# Altium footprint library pedals-enclosures.PCBLIB: 23 footprints (part 1 of 2)
Each footprint in its own frame and in the unit in brackets; x right, y up, seen from the top. Pads: shape width x height; smd on the part's side, far side on the other; paste and mask are expansions set on the pad; w line width, h text height; cw(c..) or ccw(c..) is an arc to the next point about the centre after c.
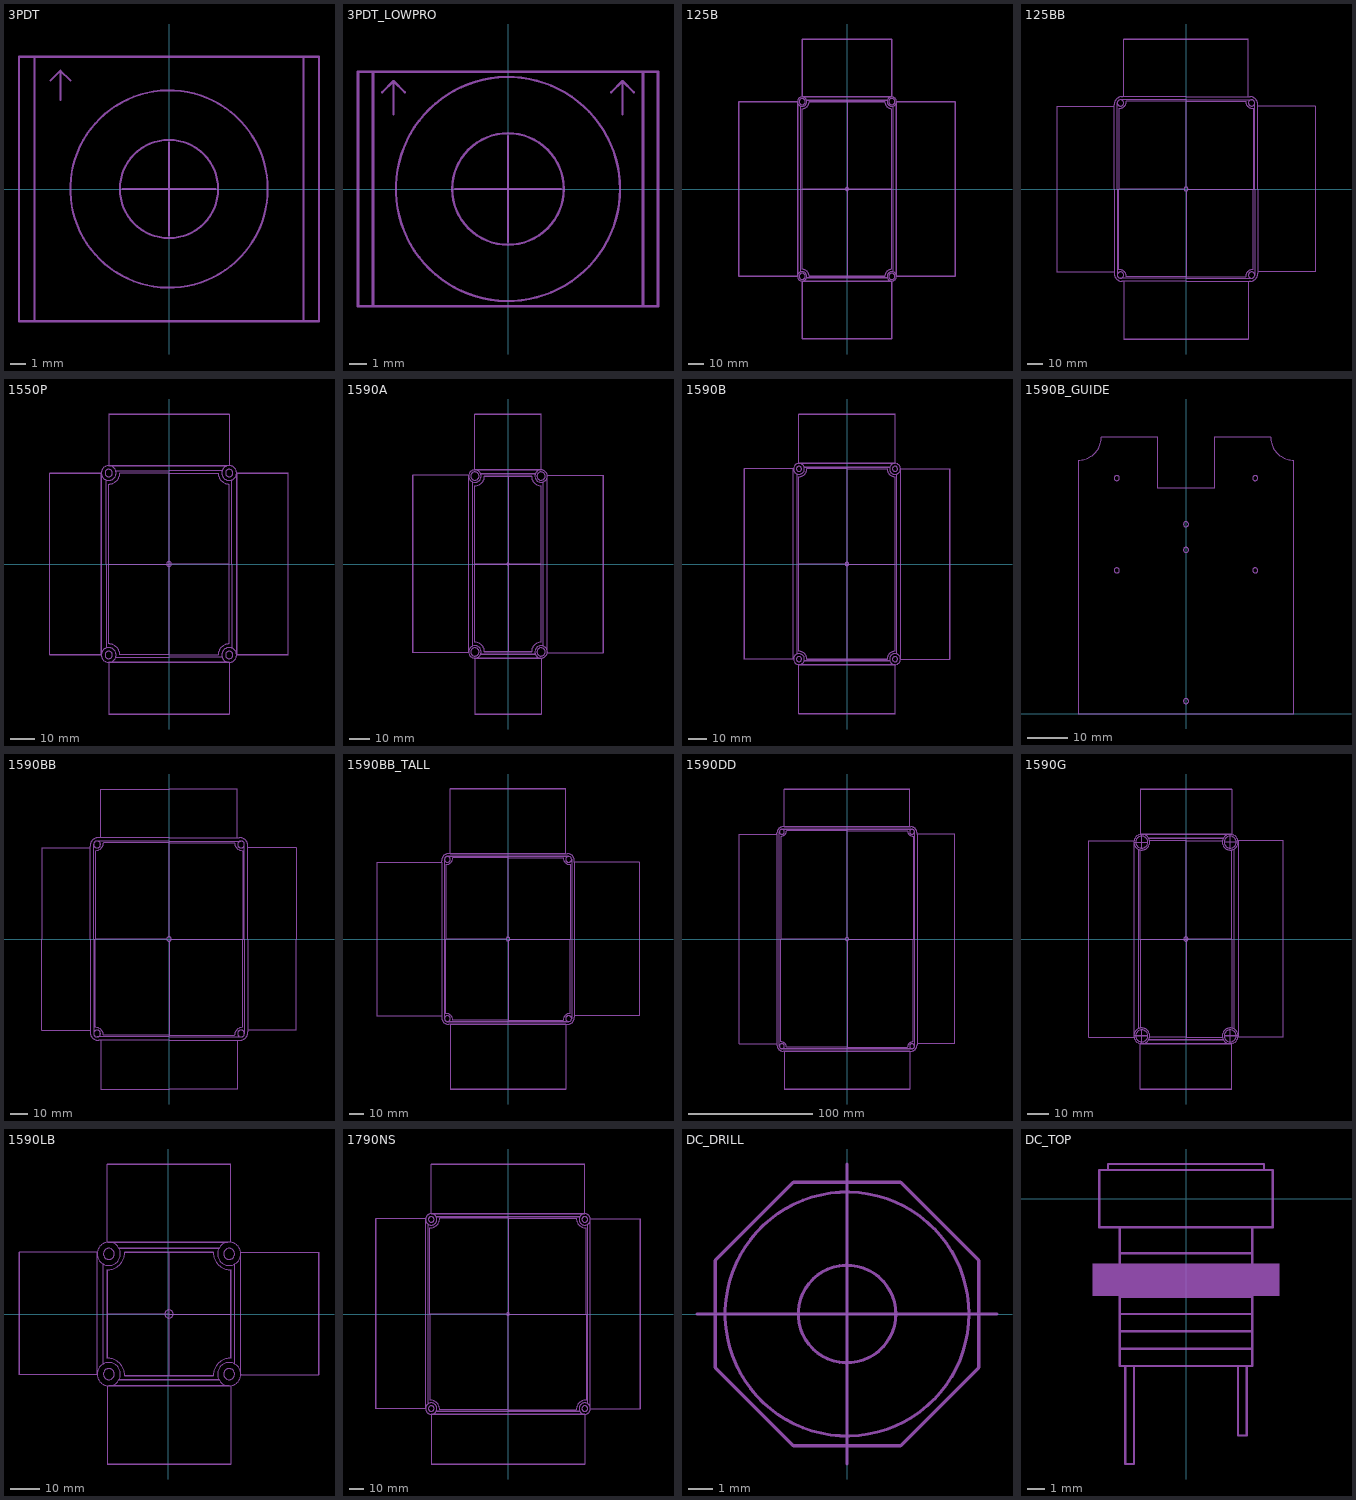
[diagram p0: the footprints below, top view; thin cyan lines are the x and y axes]

## 3PDT [mm]
Mechanical 2:
  circle w0.127: c0,0 r3.162
  circle w0.127: c0,0 r6.35
  lines w0.127: -7.62,6.985 -6.985,7.62 ; -6.985,5.715 -6.985,7.62 ; -6.35,6.985 -6.985,7.62 ; -3,0 3,0 ; 0,-3 0,3
  lines w0.152: -8.65,-8.5 8.65,-8.5 ; -8.65,-8.5 -9.65,-8.5 -9.65,8.5 -8.65,8.5 ; -8.65,-8.5 -8.65,8.5 ; -8.65,8.5 8.65,8.5 ; 8.65,-8.5 9.65,-8.5 9.65,8.5 8.65,8.5 ; 8.65,-8.5 8.65,8.5
Mechanical 3:
  circle w0.127: c0,0 r3.162
  circle w0.127: c0,0 r6.35
  lines w0.127: -7.62,6.985 -6.985,7.62 ; -6.985,5.715 -6.985,7.62 ; -6.35,6.985 -6.985,7.62 ; -3,0 3,0 ; 0,-3 0,3
  lines w0.152: -8.65,-8.5 -9.65,-8.5 -9.65,8.5 -8.65,8.5 ; -8.65,-8.5 8.65,-8.5 ; -8.65,-8.5 -8.65,8.5 ; -8.65,8.5 8.65,8.5 ; 8.65,-8.5 9.65,-8.5 9.65,8.5 8.65,8.5 ; 8.65,-8.5 8.65,8.5

## 3PDT_LOWPRO [mm]
Mechanical 2:
  circle w0.127: c0,0 r3.162
  circle w0.127: c0,0 r6.35
  lines w0.127: -7.12,5.485 -6.485,6.12 ; -6.485,4.215 -6.485,6.12 ; -5.85,5.485 -6.485,6.12 ; -3,0 3,0 ; 0,-3 0,3
  lines w0.152: -7.65,-6.65 7.65,-6.65 ; -7.65,-6.65 -8.5,-6.65 -8.5,6.65 -7.65,6.65 ; -7.65,-6.65 -7.65,6.65 ; -7.65,6.65 7.65,6.65 ; 7.65,-6.65 8.5,-6.65 8.5,6.65 7.65,6.65 ; 7.65,-6.65 7.65,6.65
Mechanical 3:
  circle w0.127: c0,0 r3.162
  circle w0.127: c0,0 r6.35
  lines w0.127: -3,0 3,0 ; 0,-3 0,3 ; 5.85,5.485 6.485,6.12 ; 6.485,4.215 6.485,6.12 ; 7.12,5.485 6.485,6.12
  lines w0.152: -7.65,-6.65 -8.5,-6.65 -8.5,6.65 -7.65,6.65 ; -7.65,-6.65 7.65,-6.65 ; -7.65,-6.65 -7.65,6.65 ; -7.65,6.65 7.65,6.65 ; 7.65,-6.65 8.5,-6.65 8.5,6.65 7.65,6.65 ; 7.65,-6.65 7.65,6.65

## 125B [mm]
Mechanical 2:
  circle w0.127: c-29,-56.5 r3
  circle w0.127: c-29,-56.5 r2
  circle w0.127: c29,-56.5 r3
  circle w0.127: c29,-56.5 r2
  circle w0.127: c29,56.5 r3
  circle w0.127: c29,56.5 r2
  circle w0.127: c-29,56.5 r2
  circle w0.127: c-29,56.5 r3
  circle w0.127: c0,0 r1
  lines w0.127: -30,-53.5 -30,0 -30,53.5 ; -26,-57.5 0,-57.5 26,-57.5 ; -26,57.5 0,57.5 26,57.5 ; 30,-53.5 30,0 30,53.5 ; -29,-97 -29,-59.5 ; -29,-97 -29,-59.5 ; -29,-97 29,-97 29,-59.5 -29,-59.5 ; -29,0 -29,52 ccw(c-29,56.5) -24.5,56.5 0,56.5 ; -29,0 0,0 ; -29,0 -29,-52 cw(c-29,-56.5) -24.5,-56.5 0,-56.5 ; 0,-56.5 0,0 ; 0,-56.5 24.5,-56.5 cw(c29,-56.5) 29,-52 29,0 ; 0,0 0,56.5 ; 0,0 29,0 ; 0,56.5 24.5,56.5 ccw(c29,56.5) 29,52 29,0 ; 29,59.5 -29,59.5 -29,97 29,97 ; 29,59.5 29,97 ; 29,59.5 29,97 ; 32,56.5 32,-56.5 70,-56.5 70,56.5 32,56.5 ; 32,56.5 32,53.365 32,56.5 ; -70,-56.5 -70,56.5 -32,56.5 -32,-56.5 -70,-56.5
Mechanical 3:
  circle w0.127: c29,-56.5 r3
  circle w0.127: c29,-56.5 r2
  circle w0.127: c-29,-56.5 r3
  circle w0.127: c-29,-56.5 r2
  circle w0.127: c-29,56.5 r3
  circle w0.127: c-29,56.5 r2
  circle w0.127: c29,56.5 r2
  circle w0.127: c29,56.5 r3
  circle w0.127: c0,0 r1
  lines w0.127: -30,-53.5 -30,0 -30,53.5 ; -26,-57.5 0,-57.5 26,-57.5 ; -26,57.5 0,57.5 26,57.5 ; 30,-53.5 30,0 30,53.5 ; -32,56.5 -32,-56.5 -70,-56.5 -70,56.5 -32,56.5 ; -32,56.5 -32,53.365 -32,56.5 ; -29,0 0,0 ; -29,0 -29,52 ccw(c-29,56.5) -24.5,56.5 0,56.5 ; -29,0 -29,-52 cw(c-29,-56.5) -24.5,-56.5 0,-56.5 ; -29,59.5 29,59.5 29,97 -29,97 ; -29,59.5 -29,97 ; -29,59.5 -29,97 ; 0,-56.5 0,0 ; 0,-56.5 24.5,-56.5 cw(c29,-56.5) 29,-52 29,0 ; 0,0 0,56.5 ; 0,0 29,0 ; 0,56.5 24.5,56.5 ccw(c29,56.5) 29,52 29,0 ; 29,-97 29,-59.5 ; 29,-97 29,-59.5 ; 29,-97 -29,-97 -29,-59.5 29,-59.5 ; 32,-56.5 32,56.5 70,56.5 70,-56.5 32,-56.5

## 125BB [mm]
Mechanical 2:
  circle w0.127: c41.5,54.5 r2
  circle w0.127: c-41.5,54.5 r2
  circle w0.127: c-41.5,-54.5 r2
  circle w0.127: c41.5,-54.5 r2
  circle w0.127: c0,0 r1.27
  lines w0.127: -43.5,-54.5 -43.5,0 -43.5,54.5 ; -41.5,-56.5 0,-56.5 41.5,-56.5 ; -41.5,56.5 0,56.5 41.5,56.5 ; 43.5,-54.5 43.5,0 43.5,54.5 ; -45.5,-52.5 -45.5,0 -45.5,52.5 ; -45.5,-52.5 -45.5,-53.5 ccw(c-40.5,-53.5) -40.5,-58.5 ; -45.5,-52.5 -82,-52.5 -82,52.5 -45.5,52.5 ; -45.5,52.5 -45.5,53.5 cw(c-40.5,53.5) -40.5,58.5 ; -42.5,0 -1,0 ; -42.5,0 -42.5,51 ccw(c-42.375,55.625) -37.75,55.5 0,55.5 ; -42.5,0 -1,0 ; -42.5,0 -1,0 ; -42.5,0 -42.5,-51 cw(c-42.375,-55.625) -37.75,-55.5 0,-55.5 ; -42.5,0 -1,0 ; -40.5,-58.5 -39.5,-58.5 ; -40.5,-58.5 -40.55,-58.5 -40.5,-58.5 ; -40.5,58.5 -39.5,58.5 ; -40.5,58.5 -40.55,58.5 -40.5,58.5 ; -39.5,-58.5 0,-58.5 39.5,-58.5 ; -39.5,-58.5 -39.5,-95 39.5,-95 39.5,-58.5 ; -39.5,58.5 0,58.5 39.5,58.5 ; -39.5,58.5 -39.5,95 39.5,95 39.5,58.5 ; 0,-55.5 0,-1 ; 0,-55.5 0,-1 ; 0,-55.5 0,-1 ; 0,-55.5 37.75,-55.5 cw(c42.375,-55.625) 42.5,-51 42.5,0 ; 0,-55.5 0,-1 ; 0,1 0,55.5 ; 0,1 0,55.5 ; 0,1 0,55.5 ; 0,1 0,55.5 ; 0,55.5 37.75,55.5 ccw(c42.375,55.625) 42.5,51 42.5,0 ; 1,0 42.5,0 ; 1,0 42.5,0 ; 1,0 42.5,0 ; 1,0 42.5,0 ; 39.5,-58.5 40.5,-58.5 ; 39.5,58.5 40.5,58.5 ; 40.5,-58.5 40.55,-58.5 40.5,-58.5 ; 40.5,-58.5 ccw(c40.5,-53.5) 45.5,-53.5 45.5,-52.5 ; 40.5,58.5 40.55,58.5 40.5,58.5 ; 40.5,58.5 cw(c40.5,53.5) 45.5,53.5 45.5,52.5 ; 45.5,-52.5 45.5,0 45.5,52.5 ; 45.5,-52.5 82,-52.5 82,52.5 45.5,52.5
Mechanical 3:
  circle w0.127: c-41.5,54.5 r2
  circle w0.127: c41.5,54.5 r2
  circle w0.127: c41.5,-54.5 r2
  circle w0.127: c-41.5,-54.5 r2
  circle w0.127: c0,0 r1.27
  lines w0.127: -43.5,-54.5 -43.5,0 -43.5,54.5 ; -41.5,-56.5 0,-56.5 41.5,-56.5 ; -41.5,56.5 0,56.5 41.5,56.5 ; 43.5,-54.5 43.5,0 43.5,54.5 ; -45.5,-52.5 -45.5,0 -45.5,52.5 ; -45.5,-52.5 -45.5,-53.5 ccw(c-40.5,-53.5) -40.5,-58.5 ; -45.5,-52.5 -82,-52.5 -82,52.5 -45.5,52.5 ; -45.5,52.5 -45.5,53.5 cw(c-40.5,53.5) -40.5,58.5 ; -42.5,0 -1,0 ; -42.5,0 -42.5,51 ccw(c-42.375,55.625) -37.75,55.5 0,55.5 ; -42.5,0 -1,0 ; -42.5,0 -1,0 ; -42.5,0 -42.5,-51 cw(c-42.375,-55.625) -37.75,-55.5 0,-55.5 ; -42.5,0 -1,0 ; -40.5,-58.5 -39.5,-58.5 ; -40.5,-58.5 -40.55,-58.5 -40.5,-58.5 ; -40.5,58.5 -39.5,58.5 ; -40.5,58.5 -40.55,58.5 -40.5,58.5 ; -39.5,-58.5 0,-58.5 39.5,-58.5 ; -39.5,-58.5 -39.5,-95 39.5,-95 39.5,-58.5 ; -39.5,58.5 0,58.5 39.5,58.5 ; -39.5,58.5 -39.5,95 39.5,95 39.5,58.5 ; 0,-55.5 0,-1 ; 0,-55.5 37.75,-55.5 cw(c42.375,-55.625) 42.5,-51 42.5,0 ; 0,-55.5 0,-1 ; 0,-55.5 0,-1 ; 0,-55.5 0,-1 ; 0,1 0,55.5 ; 0,1 0,55.5 ; 0,1 0,55.5 ; 0,1 0,55.5 ; 0,55.5 37.75,55.5 ccw(c42.375,55.625) 42.5,51 42.5,0 ; 1,0 42.5,0 ; 1,0 42.5,0 ; 1,0 42.5,0 ; 1,0 42.5,0 ; 39.5,-58.5 40.5,-58.5 ; 39.5,58.5 40.5,58.5 ; 40.5,-58.5 40.55,-58.5 40.5,-58.5 ; 40.5,-58.5 ccw(c40.5,-53.5) 45.5,-53.5 45.5,-52.5 ; 40.5,58.5 40.55,58.5 40.5,58.5 ; 40.5,58.5 cw(c40.5,53.5) 45.5,53.5 45.5,52.5 ; 45.5,-52.5 45.5,0 45.5,52.5 ; 45.5,-52.5 82,-52.5 82,52.5 45.5,52.5

## 1550P [mm]
Mechanical 2:
  circle w0.127: c-24.5,37 r3
  circle w0.127: c-24.5,37 r1.5
  circle w0.127: c24.5,-37 r3
  circle w0.127: c24.5,-37 r1.5
  circle w0.127: c24.5,37 r3
  circle w0.127: c24.5,37 r1.5
  circle w0.127: c-24.5,-37 r3
  circle w0.127: c-24.5,-37 r1.5
  circle w0.127: c0,0 r1
  lines w0.127: -25.5,-34 -25.5,0 -25.5,34 ; -21.5,-38 0,-38 21.5,-38 ; -21.5,38 0,38 21.5,38 ; 25.5,-34 25.5,0 25.5,34 ; -24.5,0 0,0 ; -24.5,0 -24.5,32.5 ccw(c-24.5,37) -20,37 0,37 ; -24.5,0 -24.5,-32.5 cw(c-24.5,-37) -20,-37 0,-37 ; 0,-37 0,0 ; 0,-37 20,-37 cw(c24.5,-37) 24.5,-32.5 24.5,0 ; 0,0 0,37 ; 0,0 24.5,0 ; 0,37 20,37 ccw(c24.5,37) 24.5,32.5 24.5,0 ; -48.5,-37 -27.5,-37 -27.5,37 -48.5,37 -48.5,-37 ; -24.5,-61 -24.5,-40 24.5,-40 24.5,-61 -24.5,-61 ; -24.5,40 -23.5,40 24.5,40 24.5,61 -24.5,61 -24.5,40 ; 27.5,-37 27.5,37 48.5,37 48.5,-37 27.5,-37
Mechanical 3:
  circle w0.127: c24.5,37 r3
  circle w0.127: c24.5,37 r1.5
  circle w0.127: c-24.5,-37 r3
  circle w0.127: c-24.5,-37 r1.5
  circle w0.127: c-24.5,37 r3
  circle w0.127: c-24.5,37 r1.5
  circle w0.127: c24.5,-37 r3
  circle w0.127: c24.5,-37 r1.5
  circle w0.127: c0,0 r1
  lines w0.127: -25.5,-34 -25.5,0 -25.5,34 ; -21.5,-38 0,-38 21.5,-38 ; -21.5,38 0,38 21.5,38 ; 25.5,-34 25.5,0 25.5,34 ; -24.5,0 0,0 ; -24.5,0 -24.5,32.5 ccw(c-24.5,37) -20,37 0,37 ; -24.5,0 -24.5,-32.5 cw(c-24.5,-37) -20,-37 0,-37 ; 0,-37 0,0 ; 0,-37 20,-37 cw(c24.5,-37) 24.5,-32.5 24.5,0 ; 0,0 0,37 ; 0,0 24.5,0 ; 0,37 20,37 ccw(c24.5,37) 24.5,32.5 24.5,0 ; -48.5,-37 -27.5,-37 -27.5,37 -48.5,37 -48.5,-37 ; -24.5,-61 -24.5,-40 24.5,-40 24.5,-61 -24.5,-61 ; -24.5,40 23.5,40 24.5,40 24.5,61 -24.5,61 -24.5,40 ; 27.5,-37 27.5,37 48.5,37 48.5,-37 27.5,-37

## 1590A [mm]
Mechanical 2:
  circle w0.127: c-16,42.5 r3
  circle w0.127: c16,42.5 r3
  circle w0.127: c16,-42.5 r3
  circle w0.127: c-16,-42.5 r3
  circle w0.127: c-16,-42.5 r2
  circle w0.127: c16,-42.5 r2
  circle w0.127: c16,42.5 r2
  circle w0.127: c-16,42.5 r2
  circle w0.127: c0,0 r0.5
  lines w0.127: -19,-43 -46,-43 -46,43 -19,43 -19,-42.5 ; -17,-39.5 -17,39.5 ; -13,-43.5 13,-43.5 ; -13,43.5 13,43.5 ; -0.5,0 -16,0 ; 0,-0.5 0,-42.5 ; 0,0.5 0,42.5 ; 0.5,0 16,0 ; 17,-39.5 17,39.5 ; 19,-42.5 19,-43 ; 19,42.5 19,43 ; -16,0 -16,-37.865 cw(c-16,-42.5) -11.365,-42.5 0,-42.5 ; -16,0 -16,37.865 ccw(c-16,42.5) -11.365,42.5 0,42.5 ; 0,-42.5 11.365,-42.5 cw(c16,-42.5) 16,-37.865 16,0 ; 0,42.5 11.365,42.5 ccw(c16,42.5) 16,37.865 16,0 ; 19,-43 19,43 ; 19,-43 46,-43 46,43 19,43 ; -16,-72.5 -16,-45.5 16,-45.5 16,-72.5 -16,-72.5 ; -16,45.5 16,45.5 16,72.5 -16,72.5 -16,45.5
Mechanical 3:
  circle w0.127: c16,42.5 r3
  circle w0.127: c-16,42.5 r3
  circle w0.127: c-16,-42.5 r3
  circle w0.127: c16,-42.5 r3
  circle w0.127: c16,-42.5 r2
  circle w0.127: c-16,-42.5 r2
  circle w0.127: c-16,42.5 r2
  circle w0.127: c16,42.5 r2
  circle w0.127: c0,0 r0.5
  lines w0.127: -19,-42.5 -19,-43 ; -19,42.5 -19,43 ; -17,-39.5 -17,39.5 ; -13,-43.5 13,-43.5 ; -13,43.5 13,43.5 ; -0.5,0 -16,0 ; 0,-0.5 0,-42.5 ; 0,0.5 0,42.5 ; 0.5,0 16,0 ; 17,-39.5 17,39.5 ; 19,-43 46,-43 46,43 19,43 19,-42.5 ; -19,-43 -19,43 ; -19,-43 -46,-43 -46,43 -19,43 ; -16,0 -16,-37.865 cw(c-16,-42.5) -11.365,-42.5 0,-42.5 ; -16,0 -16,37.865 ccw(c-16,42.5) -11.365,42.5 0,42.5 ; 0,-42.5 11.365,-42.5 cw(c16,-42.5) 16,-37.865 16,0 ; 0,42.5 11.365,42.5 ccw(c16,42.5) 16,37.865 16,0 ; -16,-72.5 -16,-45.5 16,-45.5 16,-72.5 -16,-72.5 ; -16,45.5 16,45.5 16,72.5 -16,72.5 -16,45.5

## 1590B [mm]
Mechanical 2:
  circle w0.127: c-26.25,-52 r3
  circle w0.127: c-26.25,-52 r1.414
  circle w0.127: c-26.25,52 r3
  circle w0.127: c-26.25,52 r1.414
  circle w0.127: c26.25,52 r3
  circle w0.127: c26.25,52 r1.414
  circle w0.127: c26.25,-52 r3
  circle w0.127: c26.25,-52 r1.414
  circle w0.127: c0,0 r1
  lines w0.127: -23.25,-53 0,-53 23.25,-53 ; -23.25,53 0,53 23.25,53 ; 27.25,-49 27.25,49 ; -26.25,0 0,0 ; -26.25,0 -26.25,47.75 ccw(c-26.25,52) -22,52 0,52 ; -26.25,0 -26.25,-47.75 cw(c-26.25,-52) -22,-52 0,-52 ; 0,-52 0,0 ; 0,-52 22,-52 cw(c26.25,-52) 26.25,-47.75 26.25,0 ; 0,0 0,52 ; 0,0 26.25,0 ; 0,52 22,52 ccw(c26.25,52) 26.25,47.75 26.25,0 ; -56.25,-52 -29.25,-52 -29.25,52 -56.25,52 -56.25,-52 ; -27.25,-49 -27.25,49 -27.25,-49 ; -26.25,-82 -26.25,-55 26.25,-55 26.25,-82 -26.25,-82 ; -26.25,55 26.25,55 26.25,82 -26.25,82 -26.25,55 ; 29.25,-52 29.25,52 56.25,52 56.25,-52 29.25,-52
Mechanical 3:
  circle w0.127: c26.25,-52 r3
  circle w0.127: c26.25,-52 r1.414
  circle w0.127: c26.25,52 r3
  circle w0.127: c26.25,52 r1.414
  circle w0.127: c-26.25,52 r3
  circle w0.127: c-26.25,52 r1.414
  circle w0.127: c-26.25,-52 r3
  circle w0.127: c-26.25,-52 r1.414
  circle w0.127: c0,0 r1
  lines w0.127: -27.25,-49 -27.25,49 ; -23.25,-53 0,-53 23.25,-53 ; -23.25,53 0,53 23.25,53 ; -26.25,0 0,0 ; -26.25,0 -26.25,47.75 ccw(c-26.25,52) -22,52 0,52 ; -26.25,0 -26.25,-47.75 cw(c-26.25,-52) -22,-52 0,-52 ; 0,-52 0,0 ; 0,-52 22,-52 cw(c26.25,-52) 26.25,-47.75 26.25,0 ; 0,0 0,52 ; 0,0 26.25,0 ; 0,52 22,52 ccw(c26.25,52) 26.25,47.75 26.25,0 ; -56.25,-52 -29.25,-52 -29.25,52 -56.25,52 -56.25,-52 ; -26.25,-82 -26.25,-55 26.25,-55 26.25,-82 -26.25,-82 ; -26.25,55 26.25,55 26.25,82 -26.25,82 -26.25,55 ; 27.25,-49 27.25,49 27.25,-49 ; 29.25,-52 29.25,52 56.25,52 56.25,-52 29.25,-52

## 1590B_GUIDE [mm]
Mechanical 2:
  circle w0: c-17.145,35.56 r0.635
  circle w0: c0,46.99 r0.635
  circle w0: c17.145,35.56 r0.635
  circle w0: c17.145,58.42 r0.635
  circle w0: c-17.145,58.42 r0.635
  circle w0: c0,3.175 r0.635
  circle w0: c0,40.64 r0.635
  lines w0: -26.67,0 26.67,0 26.67,62.865 cw(c26.67,68.58) 20.955,68.58 6.985,68.58 6.985,55.88 -6.985,55.88 -6.985,68.58 -20.955,68.58 cw(c-26.67,68.58) -26.67,62.865 -26.67,0

## 1590BB [mm]
Mechanical 2:
  circle w0.127: c41.5,54.5 r2
  circle w0.127: c-41.5,54.5 r2
  circle w0.127: c-41.5,-54.5 r2
  circle w0.127: c41.5,-54.5 r2
  circle w0.127: c0,0 r1.27
  lines w0.127: -43.5,-54.5 -43.5,0 -43.5,54.5 ; -41.5,-56.5 0,-56.5 41.5,-56.5 ; -41.5,56.5 0,56.5 41.5,56.5 ; 43.5,-54.5 43.5,0 43.5,54.5 ; -45.5,-52.5 -45.5,0 -45.5,52.5 ; -45.5,-52.5 -45.5,-53.5 ccw(c-40.5,-53.5) -40.5,-58.5 ; -45.5,-52.5 -73.5,-52.5 -73.5,0 -73.5,52.5 -45.5,52.5 ; -45.5,52.5 -45.5,53.5 cw(c-40.5,53.5) -40.5,58.5 ; -42.5,0 -1,0 ; -42.5,0 -42.5,51 ccw(c-42.375,55.625) -37.75,55.5 0,55.5 ; -42.5,0 -1,0 ; -42.5,0 -1,0 ; -42.5,0 -42.5,-51 cw(c-42.375,-55.625) -37.75,-55.5 0,-55.5 ; -42.5,0 -1,0 ; -40.5,-58.5 -39.5,-58.5 ; -40.5,-58.5 -40.55,-58.5 -40.5,-58.5 ; -40.5,58.5 -39.5,58.5 ; -40.5,58.5 -40.55,58.5 -40.5,58.5 ; -39.5,-58.5 0,-58.5 39.5,-58.5 ; -39.5,-58.5 -39.5,-86.5 0,-86.5 39.5,-86.5 39.5,-58.5 ; -39.5,58.5 0,58.5 39.5,58.5 ; -39.5,58.5 -39.5,86.5 0,86.5 39.5,86.5 39.5,58.5 ; 0,-55.5 0,-1 ; 0,-55.5 0,-1 ; 0,-55.5 0,-1 ; 0,-55.5 37.75,-55.5 cw(c42.375,-55.625) 42.5,-51 42.5,0 ; 0,-55.5 0,-1 ; 0,1 0,55.5 ; 0,1 0,55.5 ; 0,1 0,55.5 ; 0,1 0,55.5 ; 0,55.5 37.75,55.5 ccw(c42.375,55.625) 42.5,51 42.5,0 ; 1,0 42.5,0 ; 1,0 42.5,0 ; 1,0 42.5,0 ; 1,0 42.5,0 ; 39.5,-58.5 40.5,-58.5 ; 39.5,58.5 40.5,58.5 ; 40.5,-58.5 40.55,-58.5 40.5,-58.5 ; 40.5,-58.5 ccw(c40.5,-53.5) 45.5,-53.5 45.5,-52.5 ; 40.5,58.5 40.55,58.5 40.5,58.5 ; 40.5,58.5 cw(c40.5,53.5) 45.5,53.5 45.5,52.5 ; 45.5,-52.5 45.5,0 45.5,52.5 ; 45.5,-52.5 73.5,-52.5 73.5,0 73.5,52.5 45.5,52.5
Mechanical 3:
  circle w0.127: c-41.5,54.5 r2
  circle w0.127: c41.5,54.5 r2
  circle w0.127: c41.5,-54.5 r2
  circle w0.127: c-41.5,-54.5 r2
  circle w0.127: c0,0 r1.27
  lines w0.127: -43.5,-54.5 -43.5,0 -43.5,54.5 ; -41.5,-56.5 0,-56.5 41.5,-56.5 ; -41.5,56.5 0,56.5 41.5,56.5 ; 43.5,-54.5 43.5,0 43.5,54.5 ; -45.5,-52.5 -45.5,0 -45.5,52.5 ; -45.5,-52.5 -45.5,-53.5 ccw(c-40.5,-53.5) -40.5,-58.5 ; -45.5,-52.5 -73.5,-52.5 -73.5,0 -73.5,52.5 -45.5,52.5 ; -45.5,52.5 -45.5,53.5 cw(c-40.5,53.5) -40.5,58.5 ; -42.5,0 -1,0 ; -42.5,0 -42.5,51 ccw(c-42.375,55.625) -37.75,55.5 0,55.5 ; -42.5,0 -1,0 ; -42.5,0 -1,0 ; -42.5,0 -42.5,-51 cw(c-42.375,-55.625) -37.75,-55.5 0,-55.5 ; -42.5,0 -1,0 ; -40.5,-58.5 -39.5,-58.5 ; -40.5,-58.5 -40.55,-58.5 -40.5,-58.5 ; -40.5,58.5 -39.5,58.5 ; -40.5,58.5 -40.55,58.5 -40.5,58.5 ; -39.5,-58.5 0,-58.5 39.5,-58.5 ; -39.5,-58.5 -39.5,-86.5 0,-86.5 39.5,-86.5 39.5,-58.5 ; -39.5,58.5 0,58.5 39.5,58.5 ; -39.5,58.5 -39.5,86.5 0,86.5 39.5,86.5 39.5,58.5 ; 0,-55.5 0,-1 ; 0,-55.5 37.75,-55.5 cw(c42.375,-55.625) 42.5,-51 42.5,0 ; 0,-55.5 0,-1 ; 0,-55.5 0,-1 ; 0,-55.5 0,-1 ; 0,1 0,55.5 ; 0,1 0,55.5 ; 0,1 0,55.5 ; 0,1 0,55.5 ; 0,55.5 37.75,55.5 ccw(c42.375,55.625) 42.5,51 42.5,0 ; 1,0 42.5,0 ; 1,0 42.5,0 ; 1,0 42.5,0 ; 1,0 42.5,0 ; 39.5,-58.5 40.5,-58.5 ; 39.5,58.5 40.5,58.5 ; 40.5,-58.5 40.55,-58.5 40.5,-58.5 ; 40.5,-58.5 ccw(c40.5,-53.5) 45.5,-53.5 45.5,-52.5 ; 40.5,58.5 40.55,58.5 40.5,58.5 ; 40.5,58.5 cw(c40.5,53.5) 45.5,53.5 45.5,52.5 ; 45.5,-52.5 45.5,0 45.5,52.5 ; 45.5,-52.5 73.5,-52.5 73.5,0 73.5,52.5 45.5,52.5

## 1590BB_TALL [mm]
Mechanical 2:
  circle w0.127: c41.5,54.5 r2
  circle w0.127: c-41.5,54.5 r2
  circle w0.127: c-41.5,-54.5 r2
  circle w0.127: c41.5,-54.5 r2
  circle w0.127: c0,0 r1.27
  lines w0.127: -43.5,-54.5 -43.5,54.5 ; -41.5,-56.5 41.5,-56.5 ; -41.5,56.5 41.5,56.5 ; -40.55,-58.5 -40.5,-58.5 ; -40.55,58.5 -40.5,58.5 ; -1,0 -42.5,0 ; 0,-1 0,-55.5 ; 0,1 0,55.5 ; 1,0 42.5,0 ; 40.55,-58.5 40.5,-58.5 ; 40.55,58.5 40.5,58.5 ; 43.5,-54.5 43.5,54.5 ; -45.5,-52.5 -45.5,52.5 ; -45.5,-52.5 -45.5,-53.5 ccw(c-40.5,-53.5) -40.5,-58.5 ; -45.5,-52.5 -89.726,-52.5 -89.726,52.5 -45.5,52.5 ; -45.5,52.5 -45.5,53.5 cw(c-40.5,53.5) -40.5,58.5 ; -42.5,0 -42.5,51 ccw(c-42.375,55.625) -37.75,55.5 0,55.5 ; -42.5,0 -42.5,-51 cw(c-42.375,-55.625) -37.75,-55.5 0,-55.5 ; -40.5,-58.5 -39.5,-58.5 ; -40.5,58.5 -39.5,58.5 ; -39.5,-58.5 -39.5,-102.68 39.5,-102.68 39.5,-58.5 ; -39.5,-58.5 39.5,-58.5 ; -39.5,58.5 39.5,58.5 ; -39.5,58.5 -39.5,102.68 39.5,102.68 39.5,58.5 ; 0,-55.5 37.75,-55.5 cw(c42.375,-55.625) 42.5,-51 42.5,0 ; 0,55.5 37.75,55.5 ccw(c42.375,55.625) 42.5,51 42.5,0 ; 39.5,-58.5 40.5,-58.5 ; 39.5,58.5 40.5,58.5 ; 40.5,-58.5 ccw(c40.5,-53.5) 45.5,-53.5 45.5,-52.5 ; 40.5,58.5 cw(c40.5,53.5) 45.5,53.5 45.5,52.5 ; 45.5,-52.5 45.5,52.5 ; 45.5,-52.5 89.726,-52.5 89.726,52.5 45.5,52.5
Mechanical 3:
  circle w0.127: c-41.5,54.5 r2
  circle w0.127: c41.5,54.5 r2
  circle w0.127: c41.5,-54.5 r2
  circle w0.127: c-41.5,-54.5 r2
  circle w0.127: c0,0 r1.27
  lines w0.127: -43.5,-54.5 -43.5,54.5 ; -41.5,-56.5 41.5,-56.5 ; -41.5,56.5 41.5,56.5 ; -40.55,-58.5 -40.5,-58.5 ; -40.55,58.5 -40.5,58.5 ; -1,0 -42.5,0 ; 0,-1 0,-55.5 ; 0,1 0,55.5 ; 1,0 42.5,0 ; 40.55,-58.5 40.5,-58.5 ; 40.55,58.5 40.5,58.5 ; 43.5,-54.5 43.5,54.5 ; -45.5,-52.5 -45.5,52.5 ; -45.5,-52.5 -45.5,-53.5 ccw(c-40.5,-53.5) -40.5,-58.5 ; -45.5,-52.5 -89.726,-52.5 -89.726,52.5 -45.5,52.5 ; -45.5,52.5 -45.5,53.5 cw(c-40.5,53.5) -40.5,58.5 ; -42.5,0 -42.5,51 ccw(c-42.375,55.625) -37.75,55.5 0,55.5 ; -42.5,0 -42.5,-51 cw(c-42.375,-55.625) -37.75,-55.5 0,-55.5 ; -40.5,-58.5 -39.5,-58.5 ; -40.5,58.5 -39.5,58.5 ; -39.5,-58.5 39.5,-58.5 ; -39.5,-58.5 -39.5,-102.68 39.5,-102.68 39.5,-58.5 ; -39.5,58.5 -39.5,102.68 39.5,102.68 39.5,58.5 ; -39.5,58.5 39.5,58.5 ; 0,-55.5 37.75,-55.5 cw(c42.375,-55.625) 42.5,-51 42.5,0 ; 0,55.5 37.75,55.5 ccw(c42.375,55.625) 42.5,51 42.5,0 ; 39.5,-58.5 40.5,-58.5 ; 39.5,58.5 40.5,58.5 ; 40.5,-58.5 ccw(c40.5,-53.5) 45.5,-53.5 45.5,-52.5 ; 40.5,58.5 cw(c40.5,53.5) 45.5,53.5 45.5,52.5 ; 45.5,-52.5 45.5,52.5 ; 45.5,-52.5 89.726,-52.5 89.726,52.5 45.5,52.5

## 1590DD [mm]
Mechanical 2:
  circle w0.127: c52.5,86.5 r2
  circle w0.127: c0,0 r1.27
  circle w0.127: c-52.5,86.5 r2
  circle w0.127: c-52.5,-86.5 r2
  circle w0.127: c52.5,-86.5 r2
  lines w0.127: -54.5,-86.5 -54.5,86.5 ; -52.5,-88.5 52.5,-88.5 ; -52.5,88.5 52.5,88.5 ; -51.55,-90.5 -51.5,-90.5 ; -51.55,90.5 -51.5,90.5 ; -1,0 -53.5,0 ; 0,-1 0,-87.5 ; 0,1 0,87.5 ; 1,0 53.5,0 ; 51.55,-90.5 51.5,-90.5 ; 51.55,90.5 51.5,90.5 ; 54.5,-86.5 54.5,86.5 ; -56.5,-84.5 -56.5,84.5 ; -56.5,-84.5 -56.5,-85.5 ccw(c-51.5,-85.5) -51.5,-90.5 ; -56.5,-84.5 -87,-84.5 -87,84.5 -56.5,84.5 ; -56.5,84.5 -56.5,85.5 cw(c-51.5,85.5) -51.5,90.5 ; -53.5,0 -53.5,83 ccw(c-53.375,87.625) -48.75,87.5 0,87.5 ; -53.5,0 -53.5,-83 cw(c-53.375,-87.625) -48.75,-87.5 0,-87.5 ; -51.5,-90.5 -50.5,-90.5 ; -51.5,90.5 -50.5,90.5 ; -50.5,-90.5 -50.5,-121 50.5,-121 50.5,-90.5 ; -50.5,-90.5 50.5,-90.5 ; -50.5,90.5 -50.5,121 50.5,121 50.5,90.5 ; -50.5,90.5 50.5,90.5 ; 0,-87.5 48.75,-87.5 cw(c53.375,-87.625) 53.5,-83 53.5,0 ; 0,87.5 48.75,87.5 ccw(c53.375,87.625) 53.5,83 53.5,0 ; 50.5,-90.5 51.5,-90.5 ; 50.5,90.5 51.5,90.5 ; 51.5,-90.5 ccw(c51.5,-85.5) 56.5,-85.5 56.5,-84.5 ; 51.5,90.5 cw(c51.5,85.5) 56.5,85.5 56.5,84.5 ; 56.5,-84.5 56.5,84.5 ; 56.5,-84.5 87,-84.5 87,84.5 56.5,84.5
Mechanical 3:
  circle w0.127: c-52.5,86.5 r2
  circle w0.127: c0,0 r1.27
  circle w0.127: c52.5,86.5 r2
  circle w0.127: c52.5,-86.5 r2
  circle w0.127: c-52.5,-86.5 r2
  lines w0.127: -54.5,-86.5 -54.5,86.5 ; -52.5,-88.5 52.5,-88.5 ; -52.5,88.5 52.5,88.5 ; -51.55,-90.5 -51.5,-90.5 ; -51.55,90.5 -51.5,90.5 ; -1,0 -53.5,0 ; 0,-1 0,-87.5 ; 0,1 0,87.5 ; 1,0 53.5,0 ; 51.55,-90.5 51.5,-90.5 ; 51.55,90.5 51.5,90.5 ; 54.5,-86.5 54.5,86.5 ; -56.5,-84.5 -56.5,84.5 ; -56.5,-84.5 -56.5,-85.5 ccw(c-51.5,-85.5) -51.5,-90.5 ; -56.5,-84.5 -87,-84.5 -87,84.5 -56.5,84.5 ; -56.5,84.5 -56.5,85.5 cw(c-51.5,85.5) -51.5,90.5 ; -53.5,0 -53.5,83 ccw(c-53.375,87.625) -48.75,87.5 0,87.5 ; -53.5,0 -53.5,-83 cw(c-53.375,-87.625) -48.75,-87.5 0,-87.5 ; -51.5,-90.5 -50.5,-90.5 ; -51.5,90.5 -50.5,90.5 ; -50.5,-90.5 -50.5,-121 50.5,-121 50.5,-90.5 ; -50.5,-90.5 50.5,-90.5 ; -50.5,90.5 -50.5,121 50.5,121 50.5,90.5 ; -50.5,90.5 50.5,90.5 ; 0,-87.5 48.75,-87.5 cw(c53.375,-87.625) 53.5,-83 53.5,0 ; 0,87.5 48.75,87.5 ccw(c53.375,87.625) 53.5,83 53.5,0 ; 50.5,-90.5 51.5,-90.5 ; 50.5,90.5 51.5,90.5 ; 51.5,-90.5 ccw(c51.5,-85.5) 56.5,-85.5 56.5,-84.5 ; 51.5,90.5 cw(c51.5,85.5) 56.5,85.5 56.5,84.5 ; 56.5,-84.5 56.5,84.5 ; 56.5,-84.5 87,-84.5 87,84.5 56.5,84.5

## 1590G [mm]
Mechanical 2:
  circle w0.127: c-21,46 r3.75
  circle w0.127: c0,0 r1
  circle w0.127: c-21,46 r2.85
  circle w0.127: c21,-46 r3.75
  circle w0.127: c21,-46 r2.85
  circle w0.127: c-21,-46 r3.75
  circle w0.127: c-21,-46 r2.85
  circle w0.127: c21,46 r3.75
  circle w0.127: c21,46 r2.85
  lines w0.127: -22.75,-42.5 -22.75,42.5 ; -21.75,-42.25 -21.75,0 ; -21.75,42.25 -21.75,0 ; -21,-43.25 -21,-49.75 ; -21,43.25 -21,49.75 ; -18.25,-46 -24.75,-46 ; -18.25,46 -24.75,46 ; -17.5,-47.75 17.5,-47.75 ; -17.5,47.75 17.5,47.75 ; -17.25,-46.75 0,-46.75 ; -17.25,46.75 0,46.75 ; 17.25,-46.75 0,-46.75 ; 17.25,46.75 0,46.75 ; 18.25,-46 24.75,-46 ; 18.25,46 24.75,46 ; 21,-43.25 21,-49.75 ; 21,43.25 21,49.75 ; 21.75,-42.25 21.75,0 ; 21.75,42.25 21.75,0 ; 22.75,-42.5 22.75,42.5 ; -24.75,-46 -24.75,46 ; -24.75,-46 -24.75,-46.75 -46.25,-46.75 -46.25,46.75 -24.75,46.75 -24.75,46 ; -21.75,0 0,0 ; -21,-49.75 -21.75,-49.75 -21.75,-71.25 21.75,-71.25 21.75,-49.75 21,-49.75 ; -21,-49.75 21,-49.75 ; -21,49.75 -21.75,49.75 -21.75,71.25 21.75,71.25 21.75,49.75 21,49.75 ; -21,49.75 21,49.75 ; 0,-46.75 0,0 ; 0,0 0,46.75 ; 0,0 21.75,0 ; 24.75,-46 24.75,46 ; 24.75,-46 24.75,-46.75 46.25,-46.75 46.25,46.75 24.75,46.75 24.75,46
Mechanical 3:
  circle w0.127: c21,46 r3.75
  circle w0.127: c0,0 r1
  circle w0.127: c21,46 r2.85
  circle w0.127: c-21,-46 r3.75
  circle w0.127: c-21,-46 r2.85
  circle w0.127: c21,-46 r3.75
  circle w0.127: c21,-46 r2.85
  circle w0.127: c-21,46 r3.75
  circle w0.127: c-21,46 r2.85
  lines w0.127: -22.75,-42.5 -22.75,42.5 ; -21.75,-42.25 -21.75,0 ; -21.75,42.25 -21.75,0 ; -21,-43.25 -21,-49.75 ; -21,43.25 -21,49.75 ; -18.25,-46 -24.75,-46 ; -18.25,46 -24.75,46 ; -17.5,-47.75 17.5,-47.75 ; -17.5,47.75 17.5,47.75 ; -17.25,-46.75 0,-46.75 ; -17.25,46.75 0,46.75 ; 17.25,-46.75 0,-46.75 ; 17.25,46.75 0,46.75 ; 18.25,-46 24.75,-46 ; 18.25,46 24.75,46 ; 21,-43.25 21,-49.75 ; 21,43.25 21,49.75 ; 21.75,-42.25 21.75,0 ; 21.75,42.25 21.75,0 ; 22.75,-42.5 22.75,42.5 ; -24.75,-46 -24.75,46 ; -24.75,-46 -24.75,-46.75 -46.25,-46.75 -46.25,46.75 -24.75,46.75 -24.75,46 ; -21.75,0 0,0 ; -21,-49.75 21,-49.75 ; -21,-49.75 -21.75,-49.75 -21.75,-71.25 21.75,-71.25 21.75,-49.75 21,-49.75 ; -21,49.75 21,49.75 ; -21,49.75 -21.75,49.75 -21.75,71.25 21.75,71.25 21.75,49.75 21,49.75 ; 0,-46.75 0,0 ; 0,0 0,46.75 ; 0,0 21.75,0 ; 24.75,-46 24.75,46 ; 24.75,-46 24.75,-46.75 46.25,-46.75 46.25,46.75 24.75,46.75 24.75,46

## 1590LB [mm]
Mechanical 2:
  circle w0.127: c-20.5,-20.75 r1.9
  circle w0.127: c-20.5,-20.75 r4
  circle w0.127: c21,-20.75 r4
  circle w0.127: c21,-20.75 r1.9
  circle w0.127: c21,20.75 r4
  circle w0.127: c21,20.75 r1.9
  circle w0.127: c-20.5,20.75 r4
  circle w0.127: c-20.5,20.75 r1.9
  circle w0.127: c0.25,0 r1.414
  lines w0.127: -24.5,-21 -51.5,-21 -51.5,21.25 -24.5,21.25 -24.5,-20.845 ; -22.5,-17.25 -22.5,0 -22.5,17.25 ; -21,-24.75 -21,-51.75 21.5,-51.75 21.5,-24.75 ; -21,24.75 -21,51.75 21.5,51.75 21.5,24.75 ; -20.96,24.75 20.46,24.75 ; -20.705,0 0.205,0 ; -20.595,-24.75 21.095,-24.75 ; -17,-22.75 0.25,-22.75 17.5,-22.75 ; -17,22.75 0.25,22.75 17.5,22.75 ; 0.25,-20.955 0.25,-0.045 ; 0.25,0.045 0.25,20.955 ; 0.295,0 21.205,0 ; 23,-17.25 23,0 23,17.25 ; 25,-20.845 25,-21 ; 25,21.21 25,21.25 ; 25,-21 25,21.25 ; 25,-21 52,-21 52,21.25 25,21.25 ; -21,-15.25 -21,15.25 ccw(c-21,21.25) -15,21.25 15.5,21.25 ccw(c21.5,21.25) 21.5,15.25 21.5,-15.25 ccw(c21.5,-21.25) 15.5,-21.25 -15,-21.25 ccw(c-21,-21.25) -21,-15.25
Mechanical 3:
  circle w0.127: c21,-20.75 r1.9
  circle w0.127: c21,-20.75 r4
  circle w0.127: c-20.5,-20.75 r4
  circle w0.127: c-20.5,-20.75 r1.9
  circle w0.127: c-20.5,20.75 r4
  circle w0.127: c-20.5,20.75 r1.9
  circle w0.127: c21,20.75 r4
  circle w0.127: c21,20.75 r1.9
  circle w0.127: c0.25,0 r1.414
  lines w0.127: -24.5,-20.845 -24.5,-21 ; -24.5,21.21 -24.5,21.25 ; -22.5,-17.25 -22.5,0 -22.5,17.25 ; -21,-24.75 -21,-51.75 21.5,-51.75 21.5,-24.75 ; -21,24.75 -21,51.75 21.5,51.75 21.5,24.75 ; -20.705,0 0.205,0 ; -20.595,-24.75 21.095,-24.75 ; -19.96,24.75 21.46,24.75 ; -17,-22.75 0.25,-22.75 17.5,-22.75 ; -17,22.75 0.25,22.75 17.5,22.75 ; 0.25,-20.955 0.25,-0.045 ; 0.25,0.045 0.25,20.955 ; 0.295,0 21.205,0 ; 23,-17.25 23,0 23,17.25 ; 25,-21 52,-21 52,21.25 25,21.25 25,-20.845 ; -24.5,-21 -24.5,21.25 ; -24.5,-21 -51.5,-21 -51.5,21.25 -24.5,21.25 ; -21,-15.25 -21,15.25 ccw(c-21,21.25) -15,21.25 15.5,21.25 ccw(c21.5,21.25) 21.5,15.25 21.5,-15.25 ccw(c21.5,-21.25) 15.5,-21.25 -15,-21.25 ccw(c-21,-21.25) -21,-15.25

## 1790NS [mm]
Mechanical 2:
  circle w0.127: c-54,-66.5 r4
  circle w0.127: c-54,-66.5 r2
  circle w0.127: c-54,66.5 r4
  circle w0.127: c54,66.5 r4
  circle w0.127: c-54,66.5 r2
  circle w0.127: c54,66.5 r2
  circle w0.127: c54,-66.5 r4
  circle w0.127: c54,-66.5 r2
  circle w0.127: c0,0 r1
  lines w0.127: -58,66.5 -58,67 ; -56,-63 -56,0 -56,63 ; -50.5,-68.5 0,-68.5 50.5,-68.5 ; -50.5,68.5 0,68.5 50.5,68.5 ; 56,-63 56,0 56,63 ; -58,67 -58,-66.5 -93,-66.5 -93,67 -58,67 ; -55,0 0,0 ; -55,0 -55,60.5 ccw(c-55,67.5) -48,67.5 0,67.5 ; -55,0 -55,-60.5 cw(c-55,-67.5) -48,-67.5 0,-67.5 ; 0,-67.5 48,-67.5 cw(c55,-67.5) 55,-60.5 55,0 ; 0,-67.5 0,0 ; 0,0 55,0 ; 0,0 0,67.5 ; 0,67.5 48,67.5 ccw(c55,67.5) 55,60.5 55,0 ; -54,-105.5 54,-105.5 54,-70.5 -54,-70.5 -54,-105.5 ; -54,70.5 54,70.5 54,105.5 -54,105.5 -54,70.5 ; 58,-66.5 58,66.82 58,67 93,67 93,-66.5 58,-66.5
Mechanical 3:
  circle w0.127: c54,-66.5 r4
  circle w0.127: c54,-66.5 r2
  circle w0.127: c54,66.5 r4
  circle w0.127: c-54,66.5 r4
  circle w0.127: c54,66.5 r2
  circle w0.127: c-54,66.5 r2
  circle w0.127: c-54,-66.5 r4
  circle w0.127: c-54,-66.5 r2
  circle w0.127: c0,0 r1
  lines w0.127: -56,-63 -56,0 -56,63 ; -50.5,-68.5 0,-68.5 50.5,-68.5 ; -50.5,68.5 0,68.5 50.5,68.5 ; 56,-63 56,0 56,63 ; 58,66.5 58,67 ; -55,0 0,0 ; -55,0 -55,60.5 ccw(c-55,67.5) -48,67.5 0,67.5 ; -55,0 -55,-60.5 cw(c-55,-67.5) -48,-67.5 0,-67.5 ; 0,-67.5 0,0 ; 0,-67.5 48,-67.5 cw(c55,-67.5) 55,-60.5 55,0 ; 0,0 0,67.5 ; 0,0 55,0 ; 0,67.5 48,67.5 ccw(c55,67.5) 55,60.5 55,0 ; 58,67 58,-66.5 93,-66.5 93,67 58,67 ; -93,-66.5 -93,67 -58,67 -58,62.82 -58,-66.5 -93,-66.5 ; -54,-105.5 54,-105.5 54,-70.5 -54,-70.5 -54,-105.5 ; -54,70.5 54,70.5 54,105.5 -54,105.5 -54,70.5

## DC_DRILL [mm]
Mechanical 2:
  circle w0.127: c0,0 r5
  circle w0.127: c0,0 r2
  lines w0.127: -6.15,0 -2,0 0,0 ; 0,-6.15 0,-2 0,0 ; 0,6.15 0,0 ; 6.15,0 2,0 0,0 ; -5.4,-2.2 -2.2,-5.4 2.2,-5.4 5.4,-2.2 5.4,2.2 2.2,5.4 -2.2,5.4 -5.4,2.2 -5.4,-2.2
Mechanical 3:
  circle w0.127: c0,0 r5
  circle w0.127: c0,0 r2
  lines w0.127: -6.15,0 -2,0 0,0 ; 0,-6.15 0,-2 0,0 ; 0,6.15 0,0 ; 6.15,0 2,0 0,0 ; -5.4,-2.2 -2.2,-5.4 2.2,-5.4 5.4,-2.2 5.4,2.2 2.2,5.4 -2.2,5.4 -5.4,2.2 -5.4,-2.2

## DC_TOP [mm]
Mechanical 2:
  rectangle: -5.4,-5.6 5.4,-3.75
  lines w0.127: -4.5,1.65 -5,1.65 -5,-1.65 -3.825,-1.65 ; -4.5,1.65 4.5,1.65 ; -4.5,1.65 -4.5,2 4.5,2 4.5,1.65 ; -3.825,-8.65 -3.825,-9.65 -3.5,-9.65 ; -3.825,-8.65 -3.825,-7.65 ; -3.825,-8.65 3.825,-8.65 ; -3.825,-7.65 -3.825,-6.65 ; -3.825,-7.65 3.825,-7.65 ; -3.825,-6.65 -3.825,-5.65 ; -3.825,-6.65 3.825,-6.65 ; -3.825,-5.65 -3.825,-4.65 ; -3.825,-5.65 3.825,-5.65 ; -3.825,-4.65 -3.825,-3.15 ; -3.825,-4.65 3.825,-4.65 ; -3.825,-3.15 -3.825,-1.65 ; -3.825,-3.15 3.825,-3.15 ; -3.825,-1.65 3.825,-1.65 ; -3.5,-9.65 -3,-9.65 ; -3.5,-9.65 -3.5,-15.3 -3,-15.3 -3,-9.65 ; -3,-9.65 3,-9.65 ; 3,-9.65 3.5,-9.65 ; 3,-9.65 3,-13.65 3.5,-13.65 3.5,-9.65 ; 3.5,-9.65 3.825,-9.65 3.825,-8.65 ; 3.825,-8.65 3.825,-7.65 ; 3.825,-7.65 3.825,-6.65 ; 3.825,-6.65 3.825,-5.65 ; 3.825,-5.65 3.825,-4.65 ; 3.825,-4.65 3.825,-3.15 ; 3.825,-3.15 3.825,-1.65 ; 3.825,-1.65 5,-1.65 5,1.65 4.5,1.65
Mechanical 3:
  rectangle: -5.4,-5.6 5.4,-3.75
  lines w0.127: -4.5,1.65 -5,1.65 -5,-1.65 -3.825,-1.65 ; -4.5,1.65 4.5,1.65 ; -4.5,1.65 -4.5,2 4.5,2 4.5,1.65 ; -3.825,-8.65 -3.825,-9.65 -3.5,-9.65 ; -3.825,-8.65 -3.825,-7.65 ; -3.825,-8.65 3.825,-8.65 ; -3.825,-7.65 -3.825,-6.65 ; -3.825,-7.65 3.825,-7.65 ; -3.825,-6.65 -3.825,-5.65 ; -3.825,-6.65 3.825,-6.65 ; -3.825,-5.65 -3.825,-4.65 ; -3.825,-5.65 3.825,-5.65 ; -3.825,-4.65 -3.825,-3.15 ; -3.825,-4.65 3.825,-4.65 ; -3.825,-3.15 -3.825,-1.65 ; -3.825,-3.15 3.825,-3.15 ; -3.825,-1.65 3.825,-1.65 ; -3.5,-9.65 -3,-9.65 ; -3.5,-9.65 -3.5,-15.3 -3,-15.3 -3,-9.65 ; -3,-9.65 3,-9.65 ; 3,-9.65 3.5,-9.65 ; 3,-9.65 3,-13.65 3.5,-13.65 3.5,-9.65 ; 3.5,-9.65 3.825,-9.65 3.825,-8.65 ; 3.825,-8.65 3.825,-7.65 ; 3.825,-7.65 3.825,-6.65 ; 3.825,-6.65 3.825,-5.65 ; 3.825,-5.65 3.825,-4.65 ; 3.825,-4.65 3.825,-3.15 ; 3.825,-3.15 3.825,-1.65 ; 3.825,-1.65 5,-1.65 5,1.65 4.5,1.65